# EAGLE library part BQ29209 (library DubSat1 Components)
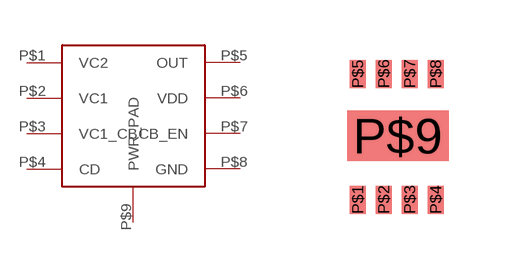
[diagram p2: symbol with the pads of VSON8; footprint VSON8]

Designator prefix -

## BQ29209  [VSON8]
P$1  VC2
P$2  VC1
P$3  VC1_CB
P$4  CD
P$5  OUT
P$6  VDD
P$7  CB_EN
P$8  GND
P$9  PWR_PAD

## Footprint VSON8 (pad centres in mm)
smd 0.4 x 0.7: P$1 0,0; P$2 0.65,0; P$3 1.3,0; P$4 1.95,0; P$5 0,3.15; P$6 0.65,3.15; P$7 1.3,3.15; P$8 1.95,3.15
smd 2.54 x 1.27: P$9 1,1.6